# EAGLE library part RT42?* (library 00_relay)
Power PCB Relay SCHRACK 2 pole 8 A, DC and AC-coil Source: http://www.schrack.com/.. 5842.pdf
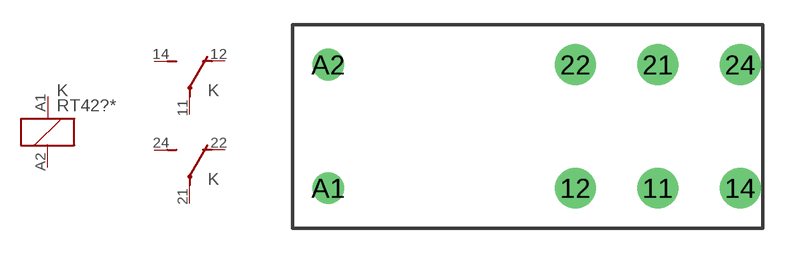
[diagram p131: symbol with the pads of RT2C/O; footprint RT2C/O]

Designator prefix K; gates 1=K 2=U 3=U

## RT424005 (MPN: RT424005; OC_FARNELL: 1629052; OC_NEWARK: 03P2425), RT424006 (MF: TYCO ELECTRONICS; MPN: RT424006; OC_FARNELL: unknown; OC_NEWARK: 08H3752), RT424012 (MPN: RT424012; OC_FARNELL: 1629053; OC_NEWARK: 03P2426), RT424024 (MF: TYCO ELECTRONICS; MPN: RT424024; OC_FARNELL: 1629054; OC_NEWARK: 16F393), RT424048 (MPN: RT424048; OC_FARNELL: 1629055; OC_NEWARK: 03P2428), RT424060 (OC_FARNELL: unknown; OC_NEWARK: unknown), RT424110 (MPN: RT424110; OC_FARNELL: unknown; OC_NEWARK: 93B6583), RT424524 (MF: TYCO ELECTRONICS; MPN: RT424524; OC_FARNELL: 1629056; OC_NEWARK: 94C4293), RT424615 (MF: TYCO ELECTRONICS; MPN: RT424615; OC_FARNELL: 1629057; OC_NEWARK: 48F1292), RT424730 (MF: TYCO ELECTRONICS; MPN: RT424730; OC_FARNELL: 1629058; OC_NEWARK: 85C0866)  [RT2C/O]
11  2:P  pas
12  2:O  pas
14  2:S  pas
21  3:P  pas
22  3:O  pas
24  3:S  pas
A1  1:1  pas
A2  1:2  pas

## RT425005 (MF: TYCO ELECTRONICS; MPN: 8-1393243-0; OC_FARNELL: unknown; OC_NEWARK: 16H6457), RT425006 (OC_FARNELL: unknown; OC_NEWARK: unknown), RT425012 (MF: TYCO ELECTRONICS; MPN: 8-1393243-2; OC_FARNELL: unknown; OC_NEWARK: 16H6458), RT425024 (MF: TYCO ELECTRONICS; MPN: 8-1393243-5; OC_FARNELL: unknown; OC_NEWARK: 16H6459), RT425048 (OC_FARNELL: unknown; OC_NEWARK: unknown), RT425060 (OC_FARNELL: unknown; OC_NEWARK: unknown), RT425110 (OC_FARNELL: unknown; OC_NEWARK: unknown), RT425524 (MPN: RT425524; OC_FARNELL: unknown; OC_NEWARK: 48M7992), RT425615 (MPN: RT425615; OC_FARNELL: unknown; OC_NEWARK: 48M7993), RT425730 (MF: TYCO ELECTRONICS; MPN: 9-1393243-3; OC_FARNELL: unknown; OC_NEWARK: 83H4419)  [RT2C/O]
11  3:P  pas
12  3:O  pas
14  3:S  pas
21  2:P  pas
22  2:O  pas
24  2:S  pas
A1  1:1  pas
A2  1:2  pas

## Footprint RT2C/O (pad centres in mm)
Power PCB Relay DC and AC-coil SCHRACK 2 pole 8 A Source: http://www.schrack.com/.. 5842.pdf
drill 1.3 pad 2.5: 11 7.56,-3.68; 12 2.52,-3.68; 14 12.6,-3.68; 21 7.56,3.88; 22 2.52,3.88; 24 12.6,3.88
drill 1.3: A1 -12.6,-3.68; A2 -12.6,3.88